# EAGLE library part STLM75 (library st-microelectronics)
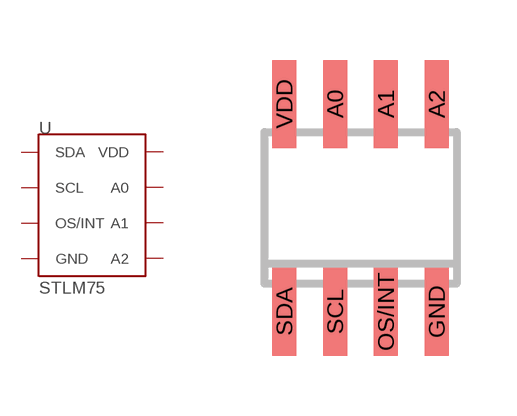
[diagram p50: symbol with the pads of SO08; footprint SO08]

Designator prefix U

## STLM75  [SO08]
A0  A0
A1  A1
A2  A2
GND  GND
OS/INT  OS/INT
SCL  SCL
SDA  SDA
VDD  VDD

## Footprint SO08 (pad centres in mm)
SMALL OUTLINE INTEGRATED CIRCUIT body 3.9 mm/JEDEC MS-012AA
smd 0.6 x 2.2: A0 -0.635,2.6; A1 0.635,2.6; A2 1.905,2.6; GND 1.905,-2.6; OS/INT 0.635,-2.6; SCL -0.635,-2.6; SDA -1.905,-2.6; VDD -1.905,2.6